# Altium footprint library HCTI-33-11.7.PcbLib: 1 footprints
Each footprint in its own frame and in the unit in brackets; x right, y up, seen from the top. Pads: shape width x height; smd on the part's side, far side on the other; paste and mask are expansions set on the pad; w line width, h text height; cw(c..) or ccw(c..) is an arc to the next point about the centre after c.
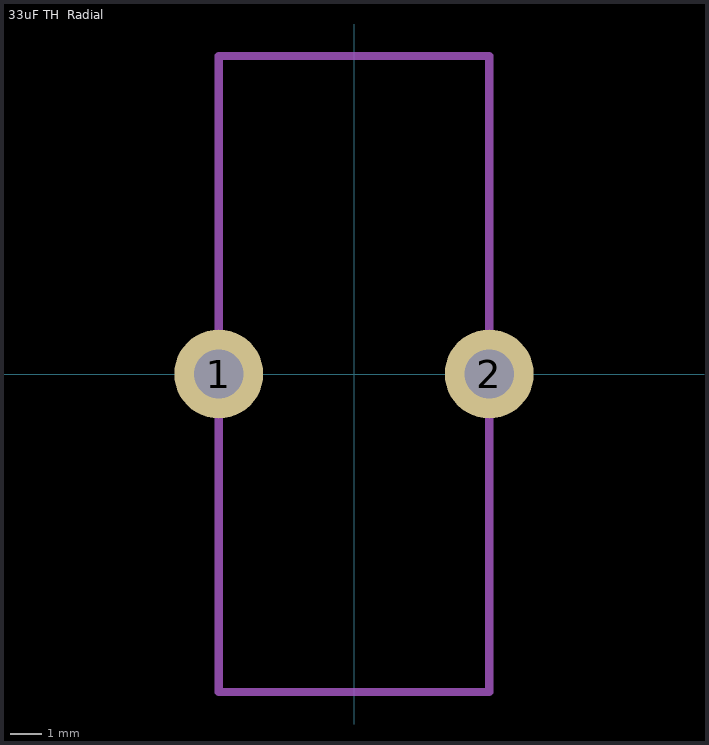
[diagram p0: the footprint, top view; thin cyan lines are the x and y axes]

## 33uF TH  Radial [mil]
pads (2):
  round 110 hole 61.02: 1(-167.32,0) 2(167.32,0)
Mechanical 1:
  lines w10: -167.32,-393.71 167.32,-393.71 167.32,393.71 -167.32,393.71 -167.32,-393.71
3D body "User Library-dross3.STEP": height 843.79, standoff 3.94, extent -187.11,-393.71 187.11,391.27